# Altium footprint library hsbest.PcbLib: 389 footprints (part 18 of 25)
Each footprint in its own frame and in the unit in brackets; x right, y up, seen from the top. Pads: shape width x height; smd on the part's side, far side on the other; paste and mask are expansions set on the pad; w line width, h text height; cw(c..) or ccw(c..) is an arc to the next point about the centre after c.
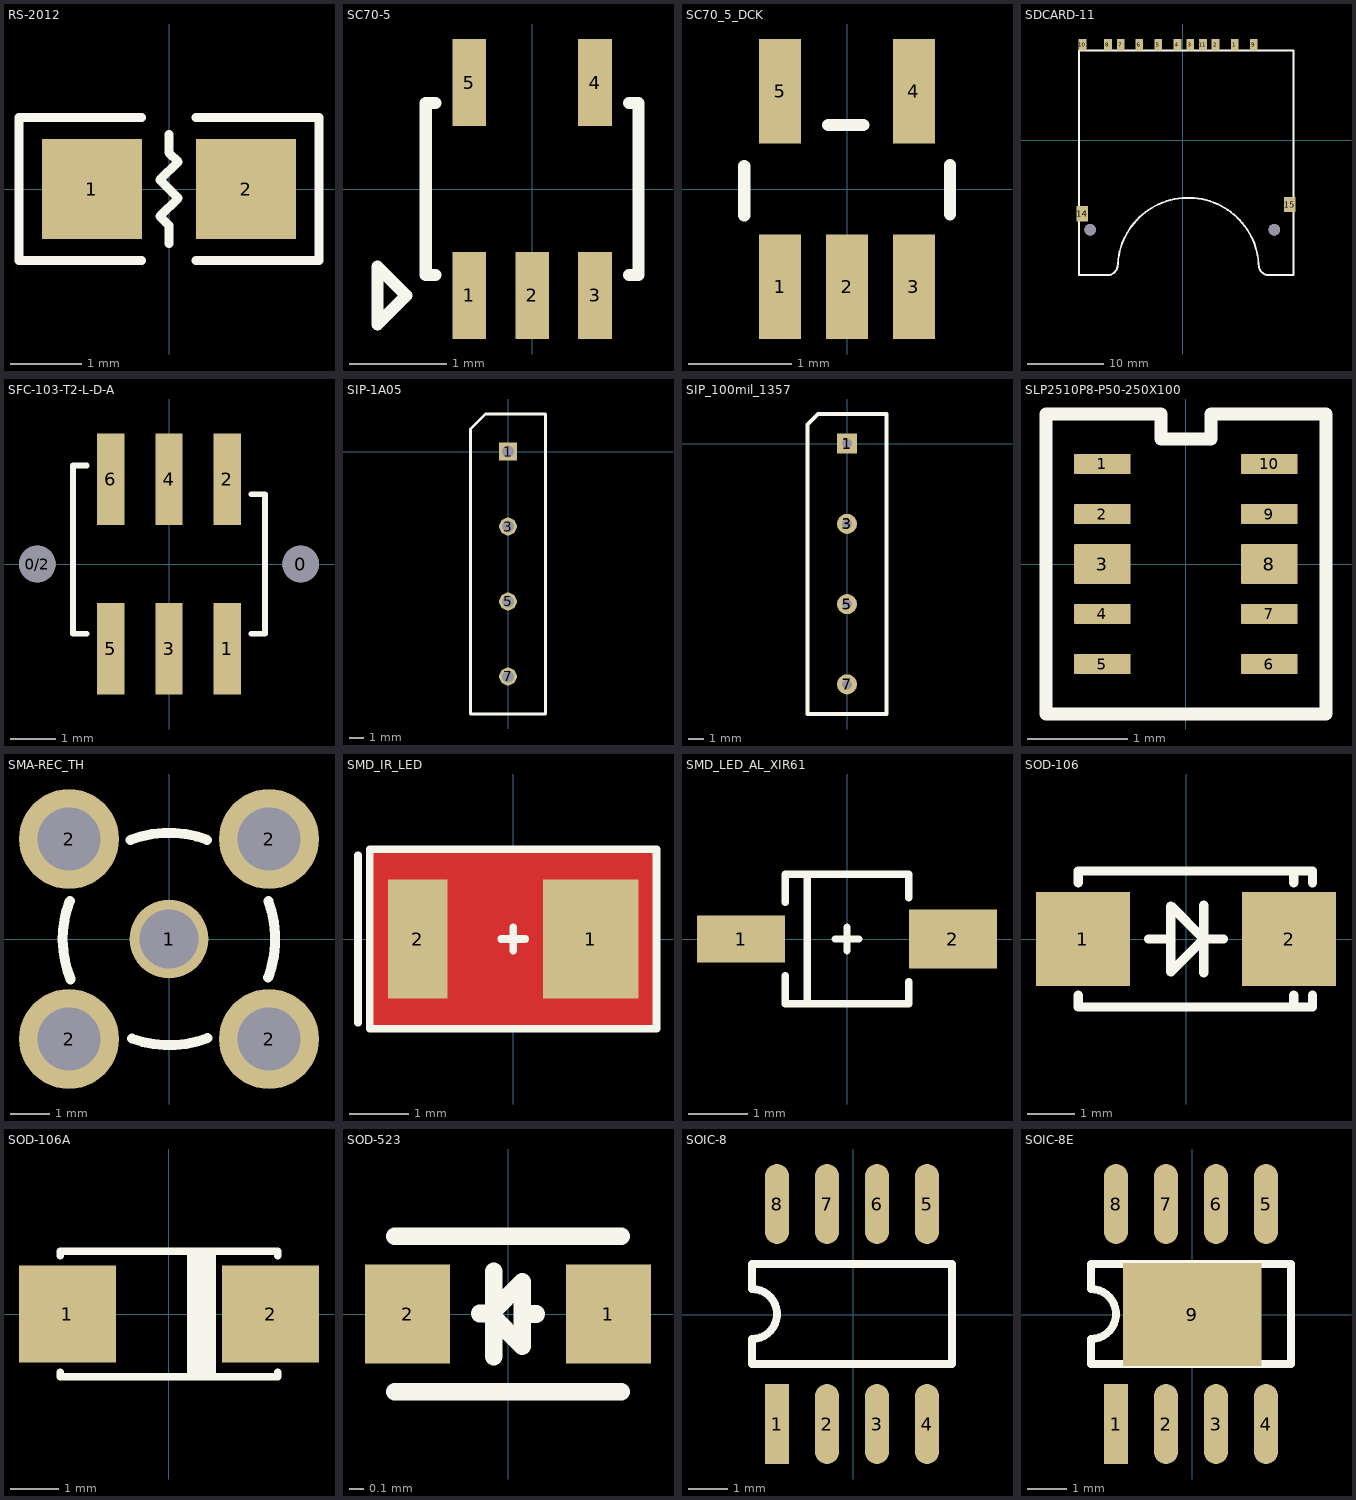
[diagram p17: the footprints below, top view; thin cyan lines are the x and y axes]

## RS-2012 [mil]
pads (2):
  rect 55x55 smd: 1(-42.5,0) 2(42.5,0)
Top Overlay:
  lines w4.92: -82.68,39.37 -82.68,-39.37 -15.02,-39.37 ; -82.6,39.37 -15.02,39.37 ; -0.02,-30.02 -0.02,-20.02 -5.02,-15.02 4.98,-5.02 -5.02,4.98 4.98,14.98 -0.02,19.98 -0.02,29.98 ; 14.98,-39.37 82.68,-39.37 82.68,39.37 14.98,39.37

## SC70-5 [mm]
pads (5):
  rect 0.35x0.9 smd: 1(-0.65,-1.1) 2(0,-1.1) 3(0.65,-1.1) 4(0.65,1.1) 5(-0.65,1.1)
Top Overlay:
  lines w0.125: -1,-0.889 -1.1,-0.889 -1.1,0.889 -1,0.889 ; 1,-0.889 1.1,-0.889 1.1,0.889 1,0.889 ; -1.6,-1.4 -1.3,-1.1 -1.6,-0.8 -1.6,-1.4

## SC70_5_DCK [mil]
pads (5):
  rect 16x40 smd: 1(-25.6,-37.4) 2(0,-37.4) 3(25.6,-37.4) 4(25.6,37.4) 5(-25.6,37.4)
Top Overlay:
  lines w4.72: -39.3,-10 -39.3,8.8 -39.3,-10 ; -7.2,24.5 6.2,24.5 -7.2,24.5 ; 39.4,-9.6 39.4,9.2 39.4,-9.6

## SDCARD-11 [mm]
pads (15):
  rect 1x1.5 smd: 1(6.813,12.527) 2(4.313,12.527) 3(1.013,12.527) 4(-0.687,12.527) 5(-3.187,12.527) 6(-5.687,12.527) 7(-8.117,12.527) 8(-9.817,12.527) 9(9.313,12.527) 10(-13.167,12.527) 11(2.663,12.527)
  round 1.5 hole 1.5: 1/1(-12.167,-11.773) 1/2(12.033,-11.773)
  rect 1.5x2 smd: 14(-13.167,-9.673) 15(14.033,-8.473)
Top Overlay:
  lines w0.254: -9.563,-17.703 -13.627,-17.703 -13.627,11.761 14.567,11.761 14.567,-17.703 11.011,-17.703 ; -9.562,-17.703 ccw(c-9.944,-16.306) -8.547,-16.686 ; -8.547,-16.69 cw(c0.724,-16.852) 9.995,-16.69 ; 9.995,-16.688 ccw(c11.392,-16.306) 11.012,-17.704

## SFC-103-T2-L-D-A [mm]
pads (8):
  round 0.8 hole 0.8: 0(2.88,0) 0/2(-2.88,0)
  rect 0.6x2 smd: 1(1.27,-1.85) 2(1.27,1.85) 3(0,-1.85) 4(0,1.85) 5(-1.27,-1.85) 6(-1.27,1.85)
Top Overlay:
  lines w0.127: -1.8,-1.525 -2.1,-1.525 -2.1,2.155 -1.8,2.155 ; 1.8,-1.525 2.1,-1.525 2.1,1.525 1.8,1.525

## SIP-1A05 [mm]
pads (4):
  rect 1.2x1.2 hole 0.8: 1(0,0)
  round 1.2 hole 0.8: 3(0,-5.08) 5(0,-10.16) 7(0,-15.24)
Top Overlay:
  lines w0.2: -2.54,-17.78 -2.54,1.524 -1.524,2.54 2.54,2.54 2.54,-17.78 -2.54,-17.78

## SIP_100mil_1357 [mm]
pads (4):
  rect 1.27x1.27 hole 0.635: 1(0,0)
  round 1.27 hole 0.635: 3(0,-5.08) 5(0,-10.16) 7(0,-15.24)
Top Overlay:
  lines w0.254: 2.5,-17.12 -2.5,-17.12 -2.5,1.214 -1.834,1.88 2.5,1.88 2.5,-17.104

## SLP2510P8-P50-250X100 [mm]
pads (10):
  rrect5% 0.565x0.2 smd: 1(-0.835,1) 2(-0.835,0.5) 4(-0.835,-0.5) 5(-0.835,-1) 6(0.835,-1) 7(0.835,-0.5) 9(0.835,0.5) 10(0.835,1)
  rrect5% 0.565x0.4 smd: 3(-0.835,0) 8(0.835,0)
Top Overlay:
  lines w0.125: -1.4,-1.5 -1.4,1.5 -0.25,1.5 -0.25,1.25 0.25,1.25 0.25,1.5 1.4,1.5 1.4,-1.5 -1.4,-1.5

## SMA-REC_TH [mm]
pads (5):
  round 2 hole 1.5: 1(0,0)
  round 2.54 hole 1.6: 2(-2.54,-2.54) 2(-2.54,2.54) 2(2.54,-2.54) 2(2.54,2.54)
Top Overlay:
  lines w0.254: -2.521,0.968 ccw(c0,0) -2.497,-1.028 ; -0.977,2.517 cw(c0,0) 0.971,2.519 ; -0.938,-2.532 ccw(c0,0) 0.974,-2.518 ; 2.516,-0.979 ccw(c0,0) 2.521,0.966

## SMD_IR_LED [mm]
pads (2):
  rect 1.6x2 smd: 1(1.3,0)
  rect 1x2 smd: 2(-1.6,0)
Top Layer:
  pour cut-out: -2.375,1.475 -2.4,-1.475 2.425,-1.5 2.4,1.5
Top Overlay:
  lines w0.127: -2.6,-1.4 -2.6,1.4 ; -2.4,1.5 -2.4,-1.5 2.375,-1.5 ; -2.375,1.5 2.4,1.5 2.4,-1.5 ; -0.2,0 0.2,0 ; 0,-0.2 0,0.2

## SMD_LED_AL_XIR61 [mm]
pads (2):
  rect 1.5x0.8 smd: 1(-1.8,0)
  rect 1.5x1 smd: 2(1.8,0)
Top Overlay:
  lines w0.127: -1.05,-0.625 -1.05,-1.1 1.05,-1.1 1.05,-0.725 ; -1.05,0.625 -1.05,1.1 1.05,1.1 1.05,0.7 ; -0.675,-1.1 -0.675,1.1 ; -0.2,0 0.2,0 ; 0,-0.2 0,0.2

## SOD-106 [mm]
pads (2):
  rrect0% 2x2 smd: 1(-2.2,0) 2(2.2,0)
Top Overlay:
  lines w0.2: -2.3,-1.2 -2.3,-1.45 2.7,-1.45 2.7,-1.2 ; -2.3,1.2 -2.3,1.45 2.7,1.45 2.7,1.2 ; -0.8,0 -0.322,0 ; -0.322,-0.7 -0.322,0.7 ; -0.322,0.702 0.38,0 ; -0.32,-0.7 0.38,0 ; 0.38,-0.72 0.38,0.72 ; 0.8,0 0.38,0 ; 2.3,-1.45 2.3,-1.2 ; 2.3,1.2 2.3,1.45

## SOD-106A [mm]
pads (2):
  rect 2x2 smd: 1(-2.1,0) 2(2.1,0)
Top Overlay:
  lines w0.152: -2.25,-1.2 -2.25,-1.3 2.25,-1.3 2.25,-1.2 ; -2.25,1.2 -2.25,1.3 2.25,1.3 2.25,1.2 ; 0.45,-1.275 0.45,1.275 ; 0.6,-1.3 0.6,1.3 ; 0.7,-1.3 0.7,1.3 ; 0.8,-1.3 0.8,1.3 ; 0.9,-1.3 0.9,1.3

## SOD-523 [mm]
pads (2):
  rect 0.6x0.7 smd: 1(0.71,0) 2(-0.71,0)
Top Overlay:
  lines w0.125: -0.8,-0.55 0.8,-0.55 ; -0.8,0.55 0.8,0.55 ; -0.2,0.003 -0.1,0.003 ; -0.1,-0.3 -0.1,0.3 ; 0.1,0 0.2,0 ; -0.127,0 0.1,0.227 0.1,-0.227 -0.127,0

## SOIC-8 [mil]
pads (8):
  rect 24x80 smd: 1(-76.34,-109.45)
  oval 24x80 smd: 2(-26.34,-109.45) 3(23.66,-109.45) 4(73.66,-109.45) 5(73.66,110.55) 6(23.66,110.55) 7(-26.34,110.55) 8(-76.34,110.55)
Top Overlay:
  lines w7.87: -101.34,-49.45 -101.34,-24.45 ccw(c-101.34,0.55) -101.34,25.55 -101.34,50.55 98.66,50.55 98.66,-49.45 -101.34,-49.45

## SOIC-8E [mil]
pads (9):
  rect 24x80 smd: 1(-76.34,-109.45)
  oval 24x80 smd: 2(-26.34,-109.45) 3(23.66,-109.45) 4(73.66,-109.45) 5(73.66,110.55) 6(23.66,110.55) 7(-26.34,110.55) 8(-76.34,110.55)
  rect 138.19x103.15 smd: 9(0,0)
Top Overlay:
  lines w7.87: -101.34,-49.45 -101.34,-24.45 ccw(c-101.34,0.55) -101.34,25.55 -101.34,50.55 98.66,50.55 98.66,-49.45 -101.34,-49.45